# Altium schematic symbol library Diod.SchLib: 4 symbols
Pins are listed as number, name and electrical type; pins without a type are passive.

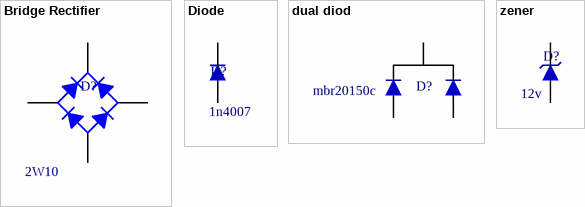
[diagram p0: symbols Bridge Rectifier to zener]

## Bridge Rectifier
designator D?, comment 2W10
Bridge Rectifier; VALUE: 2W10
footprint WOB
footprint mb6s
pins: 1 +, 2 AC+, 3 AC-, 4 -

## Diode
designator D?, comment 1n4007
normal diod; CURENT: 1A; Volt: 1000V; VALUE: 1n4007
footprint DO41
footprint SMA
footprint R6-6
footprint DO214AC
footprint MiniMELF
pins: 1, 2

## dual diod
designator D?, comment mbr20150c
dual diod; CURENT: 1A; Volt: 1000V; VALUE: mbr20150c
footprint TO220
pins: 1, 2, 3

## zener
designator D?, comment 12v
zener diod; VALUE: 12v
footprint DO41
footprint smd Zener
pins: 1, 2